# Altium footprint library master_pcb.PcbLib: 37 footprints (part 3 of 3)
Each footprint in its own frame and in the unit in brackets; x right, y up, seen from the top. Pads: shape width x height; smd on the part's side, far side on the other; paste and mask are expansions set on the pad; w line width, h text height; cw(c..) or ccw(c..) is an arc to the next point about the centre after c.
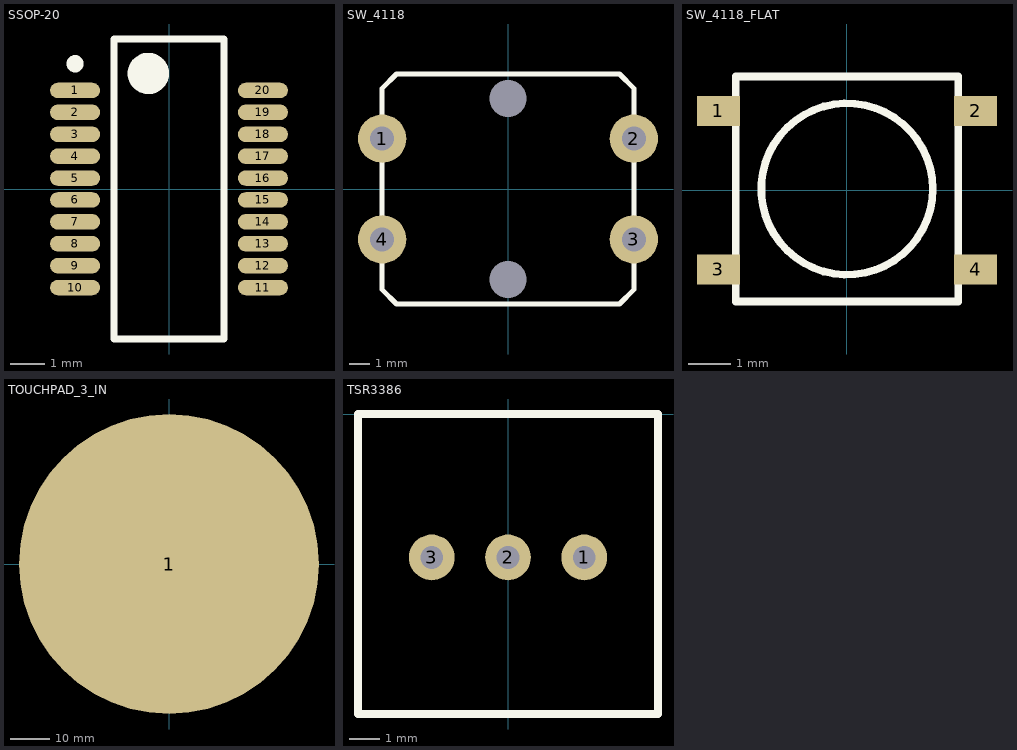
[diagram p2: the footprints below, top view; thin cyan lines are the x and y axes]

## SSOP-20 [mm] "SOP, 20-Leads, Body 8.65x3.91mm, Pitch 0.64mm, IPC Medium Density"
height 1.76
pads (20):
  oval 1.45x0.45 smd: 1(-2.725,2.857) 2(-2.725,2.222) 3(-2.725,1.587) 4(-2.725,0.953) 5(-2.725,0.318) 6(-2.725,-0.318) 7(-2.725,-0.953) 8(-2.725,-1.587) 9(-2.725,-2.222) 10(-2.725,-2.857) 11(2.725,-2.857) 12(2.725,-2.222) 13(2.725,-1.587) 14(2.725,-0.953) 15(2.725,-0.318) 16(2.725,0.318) 17(2.725,0.953) 18(2.725,1.587) 19(2.725,2.222) 20(2.725,2.857)
Top Overlay:
  circle w0.25: c-2.725,3.632 r0.125
  circle w0.6: c-0.6,3.35 r0.3
  lines w0.2: -1.6,-4.35 -1.6,4.35 1.6,4.35 1.6,-4.35 -1.6,-4.35

## SW_4118 [mm]
pads (6):
  round 2.4 hole 1.2: 1(-6.25,2.5) 2(6.25,2.5) 3(6.25,-2.5) 4(-6.25,-2.5)
  round 1.524 hole 1.85: ""(0,-4.5) ""(0,4.5)
Top Overlay:
  lines w0.254: -6.25,-5 -5.543,-5.707 5.543,-5.707 6.25,-5 6.25,5 5.543,5.707 -5.543,5.707 -6.25,5 -6.25,-5

## SW_4118_FLAT [mm]
pads (4):
  rect 1x0.7 smd: 1(-3,1.85) 2(3,1.85) 3(-3,-1.85) 4(3,-1.85)
Top Overlay:
  circle w0.178: c0,0.025 r2
  lines w0.178: -2.6,-2.6 -2.6,2.65 2.6,2.65 ; -2.6,-2.6 -2.6,-2.6 ; -2.6,-2.6 2.6,-2.6 2.6,2.65 ; 2.6,2.65 2.6,2.65

## TOUCHPAD_3_IN [mm]
pads (1):
  round 76.2 smd paste+0 mask+0: 1(0,0)

## TSR3386 [mil]
pads (3):
  round 60 hole 30: 1(100,-188.19) 2(0,-188.19) 3(-100,-188.19)
Top Overlay:
  lines w10: -196.85,-393.7 -196.85,0 196.85,0 196.85,-393.7 -196.85,-393.7